# Altium footprint library B3AL-1002P.PcbLib: 1 footprints
Each footprint in its own frame and in the unit in brackets; x right, y up, seen from the top. Pads: shape width x height; smd on the part's side, far side on the other; paste and mask are expansions set on the pad; w line width, h text height; cw(c..) or ccw(c..) is an arc to the next point about the centre after c.
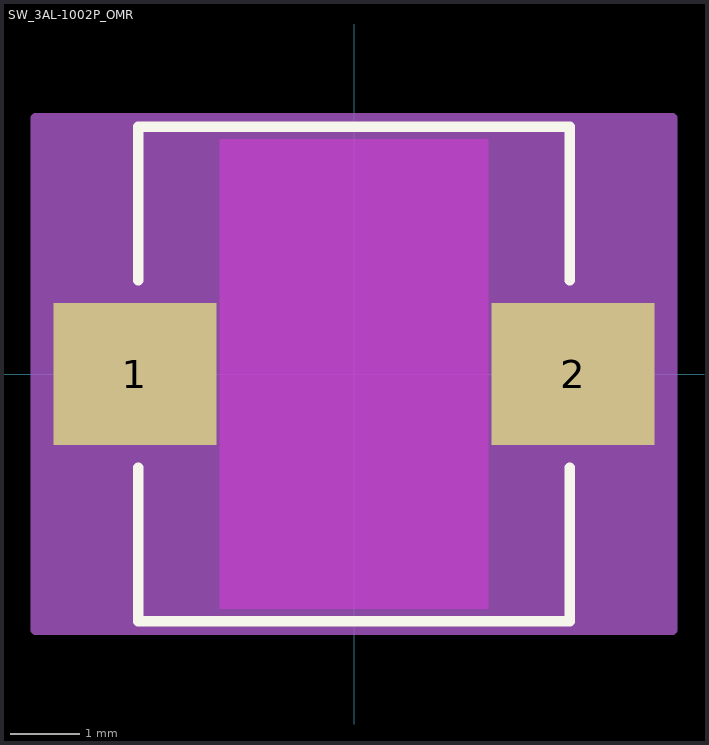
[diagram p0: the footprint, top view; thin cyan lines are the x and y axes]

## SW_3AL-1002P_OMR [mil]
pads (2):
  rect 93x81 smd paste+0 mask+0: 1(-125,0) 2(125,0)
Top Layer keep-out:
  region: -76.5,-134 -76.5,134 76.5,134 76.5,-134
Top Overlay:
  lines w6: -123,-53.6 -123,-141 123,-141 123,-53.6 ; -123,53.6 -123,141 123,141 123,53.6
Keep-Out Layer:
  region: -76.5,-134 -76.5,134 76.5,134 76.5,-134
Mechanical 13:
  circle w0: c-125,0 r0
  circle w0: c0,0 r96.46
  lines w1: -118,-68 -50,-136 ; -118,68 -50,136 ; -157.5,-39.5 -157.5,39.5 -118,39.5 -118,-39.5 -157.5,-39.5 ; -118,-136 118,-136 118,136 -118,136 -118,-136 ; 118,-39.5 118,39.5 157.5,39.5 157.5,-39.5 118,-39.5
Mechanical 15:
  region: 181.5,-146 -181.5,-146 -181.5,146 181.5,146
  lines w6: -181.5,-146 -181.5,146 181.5,146 181.5,-146 -181.5,-146